# Altium schematic symbol library Amplifier_Difference.SchLib: 15 symbols
Pins are listed as number, name and electrical type; pins without a type are passive.

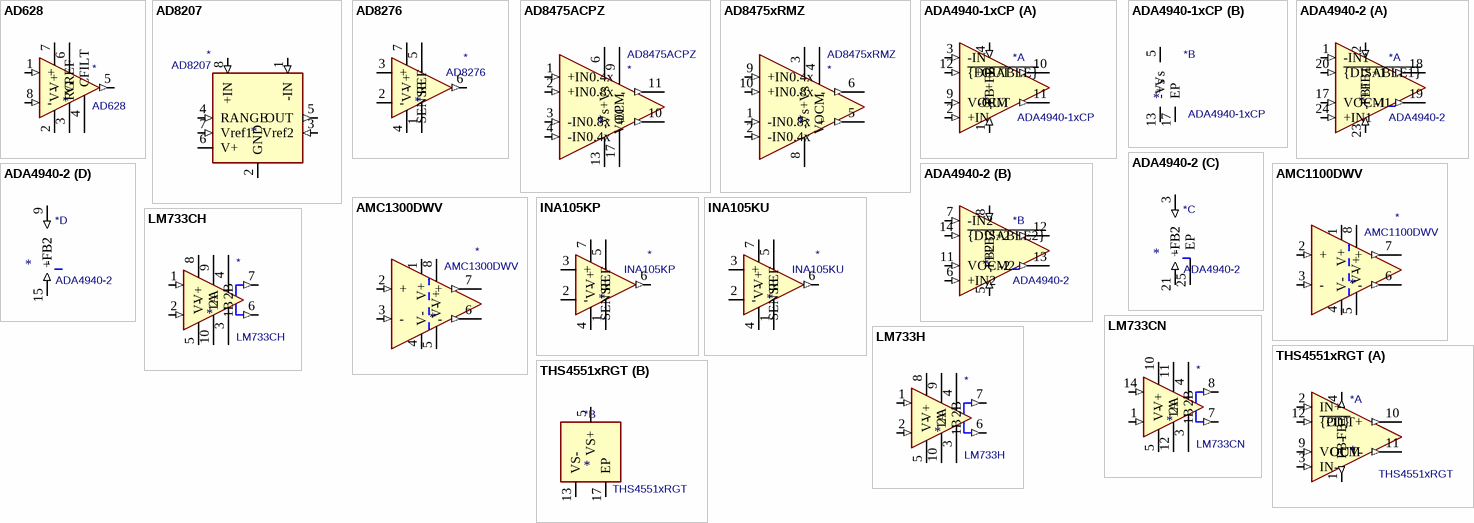
[diagram p0: symbols AD628 to THS4551xRGT]

## AD628
designator *  value AD628
ki_keywords: difference amplifier; ki_description: High Common-Mode Voltage, Programmable Gain Difference Amplifier, +/-120V, Gain = 0.1 to 100, SOIC-8/MSOP-8; ki_fp_filters: SOIC*3.9x4.9mm*P1.27mm* MSOP*3x3mm*P0.65mm*; Supplier: https://www.analog.com/media/en/technical-documentation/data-sheets/AD628.pdf
pins: 1 + (in), 2 V- (power), 3 VREF, 4 CFILT, 5 (out), 6 RG, 7 V+ (power), 8 - (in)

## AD8207
designator *  value AD8207
ki_keywords: highside HS current sense difference amplifier linear buffered; ki_description: 65V (35V) Zero-Drift, High Voltage, Bidirectional, Difference Amplifier, 20V/V gain, bandwidth 150kHz, Vcc=5V (3.3V), SOIC-8; ki_fp_filters: SOIC*3.9x4.9mm*P1.27mm*; Footprint: Package_SO:SOIC-8_3.9x4.9mm_P1.27mm; Supplier: https://www.analog.com/media/en/technical-documentation/data-sheets/AD8207.pdf
footprint SOIC-8_3.9x4.9mm_P1.27mm
pins: 1 -IN (in), 2 GND (power), 3 Vref2 (in), 4 RANGE (in), 5 OUT (out), 6 V+ (power), 7 Vref1 (in), 8 +IN (in)

## AD8276
designator *  value AD8276
ki_keywords: difference amplifier; ki_description: Low Power, Wide Supply Range, Low Cost Unity-Gain Difference Amplifier, SOIC-8/MSOP-8; ki_fp_filters: SOIC*3.9x4.9mm*P1.27mm* MSOP*3x3mm*P0.65mm*; Supplier: https://www.analog.com/media/en/technical-documentation/data-sheets/AD8276_8277.pdf
pins: 1 REF, 2 -, 3 +, 4 V- (power), 5 SENSE, 6 (out), 7 V+ (power), 8 (in) hidden

## AD8475ACPZ
designator *  value AD8475ACPZ
ki_keywords: selectable gain ADC driver; ki_description: Precision, Selectable Gain, Fully Differential Funnel Amplifier, LFCSP-16; ki_fp_filters: LFCSP*1EP*3x3mm*P0.5mm*; Footprint: Package_CSP:LFCSP-16-1EP_3x3mm_P0.5mm_EP1.6x1.6mm; Supplier: https://www.analog.com/media/en/technical-documentation/data-sheets/AD8475.pdf
footprint LFCSP-16-1EP_3x3mm_P0.5mm_EP1.6x1.6mm
pins: 1 +IN0.4x (in), 2 +IN0.8x (in), 3 -IN0.8x (in), 4 -IN0.4x (in), 5 -IN0.4x (in) hidden, 6 +Vs (power), 7 +Vs hidden, 8 +Vs hidden, 9 VOCM (power), 10 + (out), 11 - (out), 12 NC (in) hidden, 13 -Vs (power), 14 -Vs hidden, 15 -Vs hidden, 16 +IN0.4x (in) hidden, 17 EP

## AD8475xRMZ
designator *  value AD8475xRMZ
ki_keywords: selectable gain ADC driver; ki_description: Precision, Selectable Gain, Fully Differential Funnel Amplifier, MSOP-10; ki_fp_filters: MSOP*3x3mm*P0.5mm*; Footprint: Package_SO:MSOP-10_3x3mm_P0.5mm; Supplier: https://www.analog.com/media/en/technical-documentation/data-sheets/AD8475.pdf
footprint MSOP-10_3x3mm_P0.5mm
pins: 1 -IN0.8x (in), 2 -IN0.4x (in), 3 +Vs (power), 4 VOCM (power), 5 + (out), 6 - (out), 7 NC (in) hidden, 8 -Vs (power), 9 +IN0.4x (in), 10 +IN0.8x (in)

## ADA4940-1xCP
designator *  value ADA4940-1xCP
ki_keywords: differential amplifier; ki_description: Ultralow Power, Low Distortion, Fully Differential ADC Drivers, LFCSP-16; ki_fp_filters: LFCSP*1EP*3x3mm*P0.5mm*; Footprint: Package_CSP:LFCSP-16-1EP_3x3mm_P0.5mm_EP1.3x1.3mm_ThermalVias; Supplier: https://www.analog.com/media/en/technical-documentation/data-sheets/ADA4940-1_4940-2.pdf
footprint LFCSP-16-1EP_3x3mm_P0.5mm_EP1.3x1.3mm_ThermalVias
part A pins: 1 -FB (in), 2 +IN (in), 3 -IN (in), 4 +FB (in), 9 VOCM (in), 10 +OUT (out), 11 -OUT (out), 12 ~{{DISABLE}} (in)
part B pins: 5 +Vs (power), 6 +Vs hidden, 7 +Vs hidden, 8 +Vs hidden, 13 -Vs (power), 14 -Vs hidden, 15 -Vs hidden, 16 -Vs hidden, 17 EP

## ADA4940-2
designator *  value ADA4940-2
ki_keywords: differential amplifier; ki_description: Ultralow Power, Low Distortion, Fully Differential ADC Drivers, Dual-Channel, LFCSP-24; ki_fp_filters: LFCSP*1EP*4x4mm*P0.5mm*; Footprint: Package_CSP:LFCSP-24-1EP_4x4mm_P0.5mm_EP2.5x2.5mm; Supplier: https://www.analog.com/media/en/technical-documentation/data-sheets/ADA4940-1_4940-2.pdf
footprint LFCSP-24-1EP_4x4mm_P0.5mm_EP2.5x2.5mm
part A pins: 1 -IN1 (in), 2 +FB1 (in), 17 VOCM1 (in), 18 +1 (out), 19 -1 (out), 20 ~{{DISABLE1}} (in), 23 -FB1 (in), 24 +IN1 (in)
part B pins: 5 -FB2 (in), 6 +IN2 (in), 7 -IN2 (in), 8 +FB2 (in), 11 VOCM2 (in), 12 +2 (out), 13 -2 (out), 14 ~{{DISABLE2}} (in)
part C pins: 3 +FB2 (in), 4 +FB2 (in) hidden, 21 -FB2 (in), 22 -FB2 (in) hidden, 25 EP
part D pins: 9 +FB2 (in), 10 +FB2 (in) hidden, 15 -FB2 (in), 16 -FB2 (in) hidden

## AMC1100DWV
designator *  value AMC1100DWV
ki_keywords: isolated difference amplifier; ki_description: Fully-Differential Isolation Amplifier, Fixed Gain = 8, UL1577/IEC60747-5-2 Approved, SOIC-8; ki_fp_filters: SOIC*7.5x5.85mm*P1.27mm*; Footprint: Package_SO:SOIC-8_7.5x5.85mm_P1.27mm; Supplier: http://www.ti.com/lit/ds/symlink/amc1100.pdf
footprint SOIC-8_7.5x5.85mm_P1.27mm
pins: 1 V+ (power), 2 + (in), 3 - (in), 4 V- (power), 5 V- (power), 6 - (out), 7 + (out), 8 V+ (power)

## AMC1300DWV
designator *  value AMC1300DWV
ki_keywords: isolated difference amplifier; ki_description: Precision, ±250-mV Input, Reinforced Isolated Amplifier, Fixed Gain = 8.2, UL1577/VDE V 0884-11 Approved, SOIC-8; ki_fp_filters: SOIC*7.5x5.85mm*P1.27mm*; Footprint: Package_SO:SOIC-8_7.5x5.85mm_P1.27mm; Supplier: http://www.ti.com/lit/ds/symlink/amc1300.pdf
footprint SOIC-8_7.5x5.85mm_P1.27mm
pins: 1 V+ (power), 2 + (in), 3 - (in), 4 V- (power), 5 V- (power), 6 - (out), 7 + (out), 8 V+ (power)

## INA105KP
designator *  value INA105KP
ki_keywords: difference amplifier; ki_description: Low Power, Wide Supply Range, Low Cost Unity-Gain Difference Amplifier, DIP-8; ki_fp_filters: DIP*W7.62mm*; Footprint: Package_DIP:DIP-8_W7.62mm; Supplier: https://www.ti.com/lit/ds/symlink/ina105.pdf
footprint DIP-8_W7.62mm
pins: 1 REF, 2 -, 3 +, 4 V- (power), 5 SENSE, 6 (out), 7 V+ (power), 8 (in) hidden

## INA105KU
designator *  value INA105KU
ki_keywords: difference amplifier; ki_description: Low Power, Wide Supply Range, Low Cost Unity-Gain Difference Amplifier, SOIC-8; ki_fp_filters: SOIC*3.9x4.9mm*P1.27mm*; Footprint: Package_SO:SOIC-8_3.9x4.9mm_P1.27mm; Supplier: https://www.ti.com/lit/ds/symlink/ina105.pdf
footprint SOIC-8_3.9x4.9mm_P1.27mm
pins: 1 REF, 2 -, 3 +, 4 V- (power), 5 SENSE, 6 (out), 7 V+ (power), 8 (in) hidden

## LM733CH
designator *  value LM733CH
ki_keywords: single differential video opamp; ki_description: Single Differential Amplifier, TO-5-10; ki_fp_filters: TO?5*; Footprint: Package_TO_SOT_THT:TO-5-10; Supplier: http://www.soemtron.org/downloads/disposals/lm733cn.pdf
footprint TO-5-10
pins: 1 (in), 2 (in), 3 2B, 4 1B, 5 V- (power), 6 (out), 7 (out), 8 V+ (power), 9 1A, 10 2A

## LM733CN
designator *  value LM733CN
ki_keywords: single differential video opamp; ki_description: Single Differential Amplifier, DIP-14; ki_fp_filters: DIP*W7.62mm*; Footprint: Package_DIP:DIP-14_W7.62mm; Supplier: http://www.soemtron.org/downloads/disposals/lm733cn.pdf
footprint DIP-14_W7.62mm
pins: 1 (in), 2 NC (in) hidden, 3 2B, 4 1B, 5 V- (power), 6 NC (in) hidden, 7 (out), 8 (out), 9 NC (in) hidden, 10 V+ (power), 11 1A, 12 2A, 13 NC (in) hidden, 14 (in)

## LM733H
designator *  value LM733H
ki_keywords: single differential video opamp; ki_description: Single Differential Amplifier, TO-5-10; ki_fp_filters: TO?5*; Footprint: Package_TO_SOT_THT:TO-5-10; Supplier: http://www.soemtron.org/downloads/disposals/lm733cn.pdf
footprint TO-5-10
pins: 1 (in), 2 (in), 3 2B, 4 1B, 5 V- (power), 6 (out), 7 (out), 8 V+ (power), 9 1A, 10 2A

## THS4551xRGT
designator *  value THS4551xRGT
ki_keywords: differential amplifier; ki_description: Low-Noise Precision Fully Differential Amplifier, VQFN-16; ki_fp_filters: VQFN*1EP*3x3mm*P0.5mm*; Footprint: Package_DFN_QFN:VQFN-16-1EP_3x3mm_P0.5mm_EP1.68x1.68mm; Supplier: https://www.ti.com/lit/ds/symlink/ths4551.pdf
footprint VQFN-16-1EP_3x3mm_P0.5mm_EP1.68x1.68mm
part A pins: 1 FB- (out), 2 IN+ (in), 3 IN- (in), 4 FB+ (out), 9 VOCM (in), 10 OUT+ (out), 11 OUT- (out), 12 ~{{PD}} (in)
part B pins: 5 VS+ (power), 6 VS+ hidden, 7 VS+ hidden, 8 VS+ hidden, 13 VS- (power), 14 VS- hidden, 15 VS- hidden, 16 VS- hidden, 17 EP